# Altium schematic symbol library MiscModules1.SchLib: 1 symbol
Pins are listed as number, name and electrical type; pins without a type are passive.

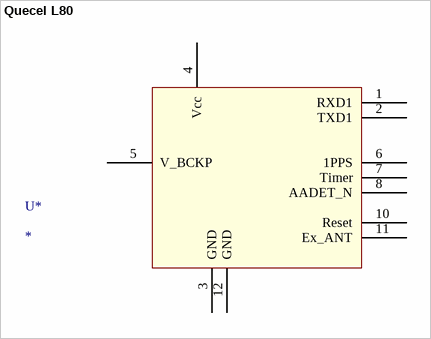
[diagram p0: symbol Quecel L80]

## Quecel L80
designator U*
Quecel L80
footprint Quectel L80 GPS
pins: 1 RXD1, 2 TXD1, 3 GND, 4 Vcc, 5 V_BCKP, 6 1PPS, 7 Timer, 8 AADET_N, 10 Reset, 11 Ex_ANT, 12 GND